# EAGLE library part STM32F030C8T (library HelaTronix - MIcroControllers)
32-bit MCU with 64KB Flash and 8KB Ram 2.4V-3.6V 2 x USART, 2 x SPI, 2 x I2C, FATFS, RTC
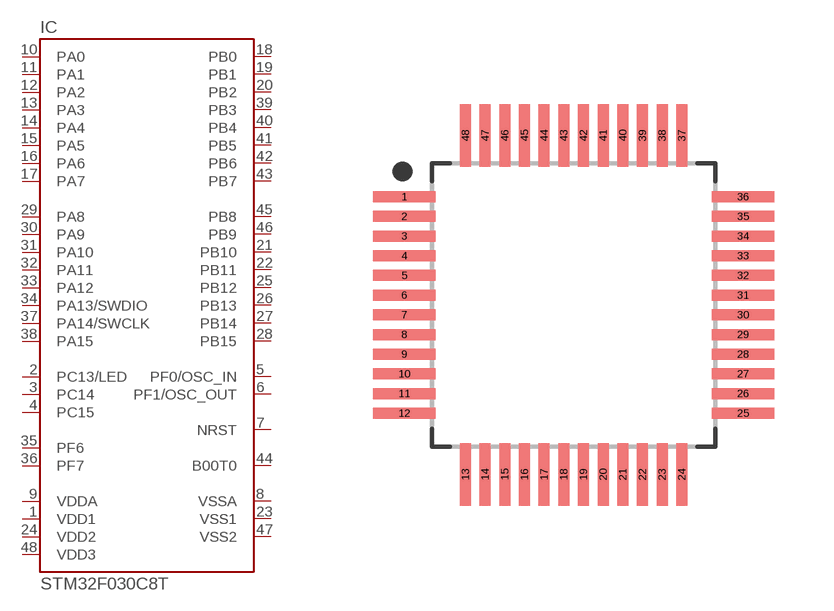
[diagram p1: symbol with the pads of LQFP48-9.25X7X1.6; footprint LQFP48-9.25X7X1.6]

Designator prefix IC

## STM32F030C8T (LCSC#: C23922; LCSC_LINK: https://lcsc.com/product-detail/ST-Microelectronics_STMicroelectronics-STM32F030C8T6_C23922.html; MANUFACTURER: STMicroelectronics; MFR#: STM32F030C8T6)  [LQFP48-9.25X7X1.6]
1  VDD1
2  PC13/LED
3  PC14
4  PC15
5  PF0/OSC_IN
6  PF1/OSC_OUT
7  NRST
8  VSSA
9  VDDA
10  PA0
11  PA1
12  PA2
13  PA3
14  PA4
15  PA5
16  PA6
17  PA7
18  PB0
19  PB1
20  PB2
21  PB10
22  PB11
23  VSS1
24  VDD2
25  PB12
26  PB13
27  PB14
28  PB15
29  PA8
30  PA9
31  PA10
32  PA11
33  PA12
34  PA13/SWDIO
35  PF6
36  PF7
37  PA14/SWCLK
38  PA15
39  PB3
40  PB4
41  PB5
42  PB6
43  PB7
44  B00T0
45  PB8
46  PB9
47  VSS2
48  VDD3

## Footprint LQFP48-9.25X7X1.6 (pad centres in mm)
48-QFP, 0.50 mm pitch, 9.25 mm span, 7.00 X 7.00 X 1.60 mm body 48-pin QFP package with 0.50 mm pitch, 9.25 mm lead span1 X 9.25 mm lead span2 with body size 7.00 X 7.00 X 1.60 mm
smd 1.6 x 0.28: 1 -4.306,2.75; 2 -4.306,2.25; 3 -4.306,1.75; 4 -4.306,1.25; 5 -4.306,0.75; 6 -4.306,0.25; 7 -4.306,-0.25; 8 -4.306,-0.75; 9 -4.306,-1.25; 10 -4.306,-1.75; 11 -4.306,-2.25; 12 -4.306,-2.75; 25 4.306,-2.75; 26 4.306,-2.25; 27 4.306,-1.75; 28 4.306,-1.25; 29 4.306,-0.75; 30 4.306,-0.25; 31 4.306,0.25; 32 4.306,0.75; 33 4.306,1.25; 34 4.306,1.75; 35 4.306,2.25; 36 4.306,2.75
smd 0.28 x 1.6: 13 -2.75,-4.306; 14 -2.25,-4.306; 15 -1.75,-4.306; 16 -1.25,-4.306; 17 -0.75,-4.306; 18 -0.25,-4.306; 19 0.25,-4.306; 20 0.75,-4.306; 21 1.25,-4.306; 22 1.75,-4.306; 23 2.25,-4.306; 24 2.75,-4.306; 37 2.75,4.306; 38 2.25,4.306; 39 1.75,4.306; 40 1.25,4.306; 41 0.75,4.306; 42 0.25,4.306; 43 -0.25,4.306; 44 -0.75,4.306; 45 -1.25,4.306; 46 -1.75,4.306; 47 -2.25,4.306; 48 -2.75,4.306